# Altium integrated library Capacitor - Aluminium TH.IntLib: 4591 symbols (part 36 of 68)
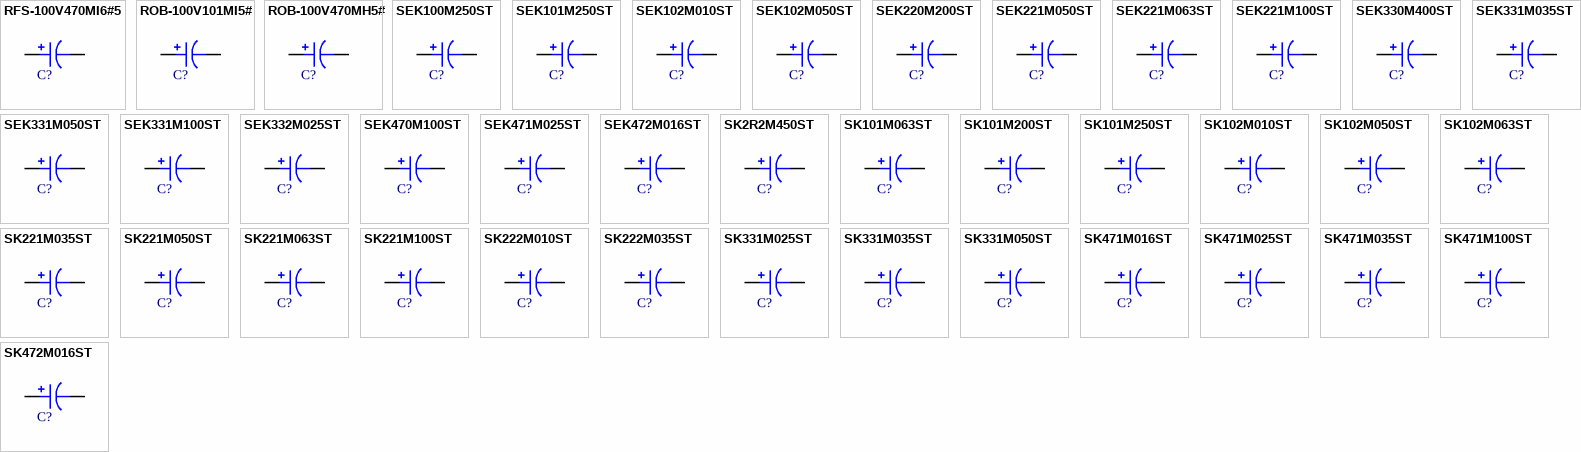
[diagram p149: symbols RFS-100V470MI6#5 to SK472M016ST]

## SK222M010ST
designator C?, comment 2200uF  (value not drawn)
CAP ALUM 2200UF 20% 10V RADIAL; Part Number: SK222M010ST; Manufacturer: Cornell Dubilier Electronics (CDE); TemperatureRange: -40C ~ 85C; Ripple Current: 1.1A; Value: 2200uF; PartId: 26199; Supplier 1: Digi-Key; Supplier Part Number 1: 338-2379-ND; ComponentLink1Description: Datasheet; ComponentLink1URL: http://www.cde.com/resources/catalogs/SK.pdf; ComponentLink2Description: Digi-Key Listing; ComponentLink2URL: https://www.digikey.com/product-detail/en/cornell-dubilier-electronics-cde/SK222M010ST/338-2379-ND/1627439; Tolerance: 20%; Voltage: 10V; Price: 1.6; Device Package: Radial, Can, 10mm
footprint CAP AL TH D10 L5 H30
pins: 1, 2

## SK222M035ST
designator C?, comment 2200uF  (value not drawn)
CAP ALUM 2200UF 20% 35V RADIAL; Part Number: SK222M035ST; Manufacturer: Cornell Dubilier Electronics (CDE); TemperatureRange: -40C ~ 85C; Ripple Current: 1.8A; Value: 2200uF; PartId: 27455; Supplier 1: Digi-Key; Supplier Part Number 1: 338-1707-ND; ComponentLink1Description: Datasheet; ComponentLink1URL: http://www.cde.com/resources/catalogs/SK.pdf; ComponentLink2Description: Digi-Key Listing; ComponentLink2URL: https://www.digikey.com/product-detail/en/cornell-dubilier-electronics-cde/SK222M035ST/338-1707-ND/1627442; Tolerance: 20%; Voltage: 35V; Price: 8.89; Device Package: Radial, Can, 16mm
footprint CAP AL TH D16 L7.5 H37
pins: 1, 2

## SK331M025ST
designator C?, comment 330uF  (value not drawn)
CAP ALUM 330UF 20% 25V RADIAL; Part Number: SK331M025ST; Manufacturer: Cornell Dubilier Electronics (CDE); TemperatureRange: -40C ~ 85C; Ripple Current: 420mA; Value: 330uF; PartId: 25390; Supplier 1: Digi-Key; Supplier Part Number 1: 338-1690-ND; ComponentLink1Description: Datasheet; ComponentLink1URL: http://www.cde.com/resources/catalogs/SK.pdf; ComponentLink2Description: Digi-Key Listing; ComponentLink2URL: https://www.digikey.com/product-detail/en/cornell-dubilier-electronics-cde/SK331M025ST/338-1690-ND/1627469; Tolerance: 20%; Voltage: 25V; Price: 0.77; Device Package: Radial, Can, 10mm
footprint CAP AL TH D10 L5 H17.5
pins: 1, 2

## SK331M035ST
designator C?, comment 330uF  (value not drawn)
CAP ALUM 330UF 20% 35V RADIAL; Part Number: SK331M035ST; Manufacturer: Cornell Dubilier Electronics (CDE); TemperatureRange: -40C ~ 85C; Ripple Current: 490mA; Value: 330uF; PartId: 25723; Supplier 1: Digi-Key; Supplier Part Number 1: 338-1665-ND; ComponentLink1Description: Datasheet; ComponentLink1URL: http://www.cde.com/resources/catalogs/SK.pdf; ComponentLink2Description: Digi-Key Listing; ComponentLink2URL: https://www.digikey.com/product-detail/en/cornell-dubilier-electronics-cde/SK331M035ST/338-1665-ND/1627470; Tolerance: 20%; Voltage: 35V; Price: 3.37; Device Package: Radial, Can, 10mm
footprint CAP AL TH D10 L5 H22
pins: 1, 2

## SK331M050ST
designator C?, comment 330uF  (value not drawn)
CAP ALUM 330UF 20% 50V RADIAL; Part Number: SK331M050ST; Manufacturer: Cornell Dubilier Electronics (CDE); TemperatureRange: -40C ~ 85C; Ripple Current: 580mA; Value: 330uF; PartId: 26205; Supplier 1: Digi-Key; Supplier Part Number 1: 338-2388-ND; ComponentLink1Description: Datasheet; ComponentLink1URL: http://www.cde.com/resources/catalogs/SK.pdf; ComponentLink2Description: Digi-Key Listing; ComponentLink2URL: https://www.digikey.com/product-detail/en/cornell-dubilier-electronics-cde/SK331M050ST/338-2388-ND/1627471; Tolerance: 20%; Voltage: 50V; Price: 4; Device Package: Radial, Can, 10mm
footprint CAP AL TH D10 L5 H30
pins: 1, 2

## SK471M016ST
designator C?, comment 470uF  (value not drawn)
CAP ALUM 470UF 20% 16V RADIAL; Part Number: SK471M016ST; Manufacturer: Cornell Dubilier Electronics (CDE); TemperatureRange: -40C ~ 85C; Type: Polar; Ripple Current: 470mA @ 120Hz; Value: 470uF; PartId: 25388; Supplier 1: Digi-Key; Supplier Part Number 1: 338-1678-ND; ComponentLink1Description: Datasheet; ComponentLink1URL: http://www.cde.com/resources/catalogs/SK.pdf; ComponentLink2Description: Digi-Key Listing; ComponentLink2URL: https://www.digikey.com/product-detail/en/cornell-dubilier-electronics-cde/SK471M016ST/338-1678-ND/1627505; Tolerance: 20%; Voltage: 16V; Price: 0.77; Device Package: Radial, Can, 10mm
footprint CAP AL TH D10 L5 H17.5
pins: 1, 2

## SK471M025ST
designator C?, comment 470uF  (value not drawn)
CAP ALUM 470UF 20% 25V RADIAL; Part Number: SK471M025ST; Manufacturer: Cornell Dubilier Electronics (CDE); TemperatureRange: -40C ~ 85C; Ripple Current: 540mA; Value: 470uF; PartId: 25722; Supplier 1: Digi-Key; Supplier Part Number 1: 338-1682-ND; ComponentLink1Description: Datasheet; ComponentLink1URL: http://www.cde.com/resources/catalogs/SK.pdf; ComponentLink2Description: Digi-Key Listing; ComponentLink2URL: https://www.digikey.com/product-detail/en/cornell-dubilier-electronics-cde/SK471M025ST/338-1682-ND/1627506; Tolerance: 20%; Voltage: 25V; Price: 3.3; Device Package: Radial, Can, 10mm
footprint CAP AL TH D10 L5 H22
pins: 1, 2

## SK471M035ST
designator C?, comment 470uF  (value not drawn)
CAP ALUM 470UF 20% 35V RADIAL; Part Number: SK471M035ST; Manufacturer: Cornell Dubilier Electronics (CDE); TemperatureRange: -40C ~ 85C; Ripple Current: 640mA; Value: 470uF; PartId: 26204; Supplier 1: Digi-Key; Supplier Part Number 1: 338-1664-ND; ComponentLink1Description: Datasheet; ComponentLink1URL: http://www.cde.com/resources/catalogs/SK.pdf; ComponentLink2Description: Digi-Key Listing; ComponentLink2URL: https://www.digikey.com/product-detail/en/cornell-dubilier-electronics-cde/SK471M035ST/338-1664-ND/1627507; Tolerance: 20%; Voltage: 35V; Price: 3.44; Device Package: Radial, Can, 10mm
footprint CAP AL TH D10 L5 H30
pins: 1, 2

## SK471M100ST
designator C?, comment 470uF  (value not drawn)
CAP ALUM 470UF 20% 100V RADIAL; Part Number: SK471M100ST; Manufacturer: Cornell Dubilier Electronics (CDE); TemperatureRange: -40C ~ 85C; Ripple Current: 1.1A; Value: 470uF; PartId: 27448; Supplier 1: Digi-Key; Supplier Part Number 1: 338-1702-ND; ComponentLink1Description: Datasheet; ComponentLink1URL: http://www.cde.com/resources/catalogs/SK.pdf; ComponentLink2Description: Digi-Key Listing; ComponentLink2URL: https://www.digikey.com/product-detail/en/cornell-dubilier-electronics-cde/SK471M100ST/338-1702-ND/1627510; Tolerance: 20%; Voltage: 100V; Price: 4.12; Device Package: Radial, Can, 16mm
footprint CAP AL TH D16 L7.5 H37
pins: 1, 2

## SK472M016ST
designator C?, comment 4700uF  (value not drawn)
CAP ALUM 4700UF 20% 16V RADIAL; Part Number: SK472M016ST; Manufacturer: Cornell Dubilier Electronics (CDE); TemperatureRange: -40C ~ 85C; Ripple Current: 2.1A; Value: 4700uF; PartId: 27437; Supplier 1: Digi-Key; Supplier Part Number 1: 338-2393-ND; ComponentLink1Description: Datasheet; ComponentLink1URL: http://www.cde.com/resources/catalogs/SK.pdf; ComponentLink2Description: Digi-Key Listing; ComponentLink2URL: https://www.digikey.com/product-detail/en/cornell-dubilier-electronics-cde/SK472M016ST/338-2393-ND/1627513; Tolerance: 20%; Voltage: 16V; Price: 3.33; Device Package: Radial, Can, 16mm
footprint CAP AL TH D16 L7.5 H37
pins: 1, 2

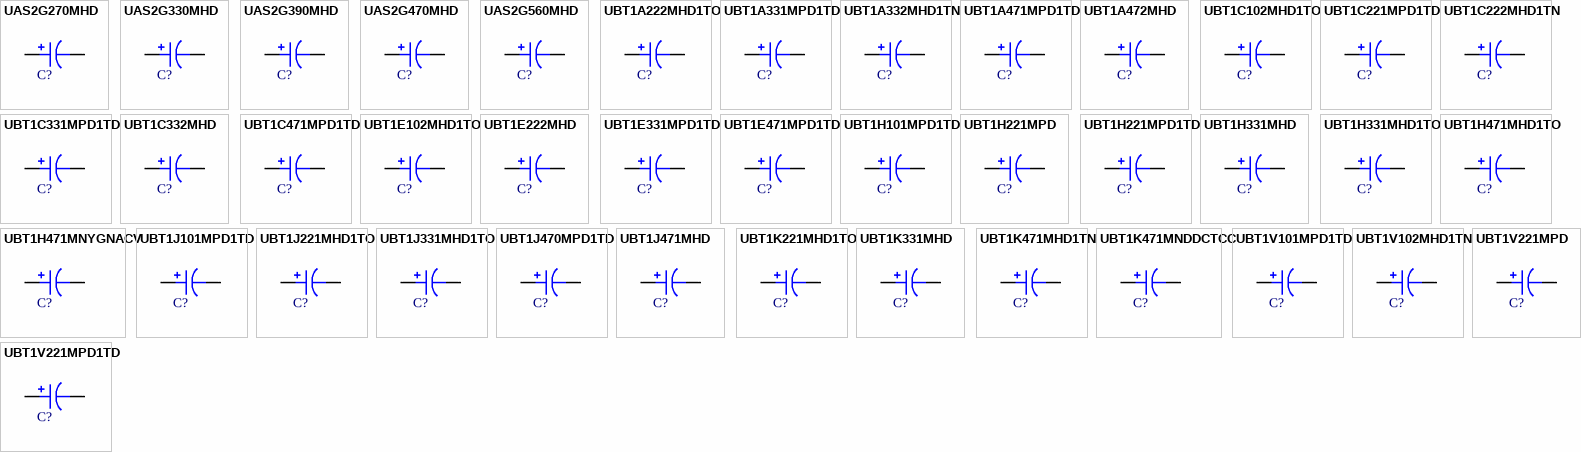
[diagram p58: symbols UAS2G270MHD to UBT1V221MPD1TD]

## UAS2G270MHD
designator C?, comment 27uF  (value not drawn)
CAP ALUM 27UF 20% 400V RADIAL; Part Number: UAS2G270MHD; Manufacturer: Nichicon; TemperatureRange: -40C ~ 105C; Type: Polar; Ripple Current: 200mA @ 120Hz; Value: 27uF; PartId: 24173; Supplier 1: Digi-Key; Supplier Part Number 1: 493-7483-ND; ComponentLink1Description: Datasheet; ComponentLink1URL: http://nichicon-us.com/english/products/pdfs/e-uas.pdf; ComponentLink2Description: Digi-Key Listing; ComponentLink2URL: https://www.digikey.com/product-detail/en/nichicon/UAS2G270MHD/493-7483-ND/3782028; Tolerance: 20%; Voltage: 400V; Price: 1.74; Device Package: Radial, Can, 12.5mm
footprint CAP AL TH D12.5 L5 H27
pins: 1, 2

## UAS2G330MHD
designator C?, comment 33uF  (value not drawn)
CAP ALUM 33UF 20% 400V RADIAL; Part Number: UAS2G330MHD; Manufacturer: Nichicon; TemperatureRange: -40C ~ 105C; Type: Polar; Ripple Current: 225mA @ 120Hz; Value: 33uF; PartId: 26482; Supplier 1: Digi-Key; Supplier Part Number 1: 493-7484-ND; ComponentLink1Description: Datasheet; ComponentLink1URL: //media.digikey.com/pdf/Data%20Sheets/Nichicon%20PDFs/UAS2G330MHD.PDF; ComponentLink2Description: Digi-Key Listing; ComponentLink2URL: https://www.digikey.com/product-detail/en/nichicon/UAS2G330MHD/493-7484-ND/3782029; Tolerance: 20%; Voltage: 400V; Price: 1.8; Device Package: Radial, Can, 16mm
footprint CAP AL TH D16 L7.5 H22
pins: 1, 2

## UAS2G390MHD
designator C?, comment 39uF  (value not drawn)
CAP ALUM 39UF 20% 400V RADIAL; Part Number: UAS2G390MHD; Manufacturer: Nichicon; TemperatureRange: -40C ~ 105C; Type: Polar; Ripple Current: 255mA @ 120Hz; Value: 39uF; PartId: 26949; Supplier 1: Digi-Key; Supplier Part Number 1: 493-7485-ND; ComponentLink1Description: Datasheet; ComponentLink1URL: http://nichicon-us.com/english/products/pdfs/e-uas.pdf; ComponentLink2Description: Digi-Key Listing; ComponentLink2URL: https://www.digikey.com/product-detail/en/nichicon/UAS2G390MHD/493-7485-ND/3782030; Tolerance: 20%; Voltage: 400V; Price: 2.03; Device Package: Radial, Can, 16mm
footprint CAP AL TH D16 L7.5 H27
pins: 1, 2

## UAS2G470MHD
designator C?, comment 47uF  (value not drawn)
CAP ALUM 47UF 20% 400V RADIAL; Part Number: UAS2G470MHD; Manufacturer: Nichicon; TemperatureRange: -40C ~ 105C; Type: Polar; Ripple Current: 290mA @ 120Hz; Value: 47uF; PartId: 26948; Supplier 1: Digi-Key; Supplier Part Number 1: 493-7487-ND; ComponentLink1Description: Datasheet; ComponentLink1URL: http://nichicon-us.com/english/products/pdfs/e-uas.pdf; ComponentLink2Description: Digi-Key Listing; ComponentLink2URL: https://www.digikey.com/product-detail/en/nichicon/UAS2G470MHD/493-7487-ND/3782032; Tolerance: 20%; Voltage: 400V; Price: 2.03; Device Package: Radial, Can, 16mm
footprint CAP AL TH D16 L7.5 H27
pins: 1, 2

## UAS2G560MHD
designator C?, comment 56uF  (value not drawn)
CAP ALUM 56UF 20% 400V RADIAL; Part Number: UAS2G560MHD; Manufacturer: Nichicon; TemperatureRange: -40C ~ 105C; Type: Polar; Ripple Current: 340mA @ 120Hz; Value: 56uF; PartId: 27227; Supplier 1: Digi-Key; Supplier Part Number 1: 493-7489-ND; ComponentLink1Description: Datasheet; ComponentLink1URL: http://nichicon-us.com/english/products/pdfs/e-uas.pdf; ComponentLink2Description: Digi-Key Listing; ComponentLink2URL: https://www.digikey.com/product-detail/en/nichicon/UAS2G560MHD/493-7489-ND/3782034; Tolerance: 20%; Voltage: 400V; Price: 2.38; Device Package: Radial, Can, 16mm
footprint CAP AL TH D16 L7.5 H33.5
pins: 1, 2

## UBT1A222MHD1TO
designator C?, comment 2200uF  (value not drawn)
CAP ALUM 2200UF 20% 10V RADIAL; Part Number: UBT1A222MHD1TO; Manufacturer: Nichicon; TemperatureRange: -40C ~ 125C; Type: Polar; Ripple Current: 1.172A @ 120Hz; Impedance: 33 mOhm; Value: 2200uF; PartId: 23849; Supplier 1: Digi-Key; Supplier Part Number 1: 493-4489-3-ND; ComponentLink1Description: Datasheet; ComponentLink1URL: http://nichicon-us.com/english/products/pdfs/e-ubt.pdf; ComponentLink2Description: Digi-Key Listing; ComponentLink2URL: https://www.digikey.com/product-detail/en/nichicon/UBT1A222MHD1TO/493-4489-3-ND/2649077; Tolerance: 20%; Voltage: 10V; Price: 0.6011; Device Package: Radial, Can, 12.5mm
footprint CAP AL TH D12.5 L5 H27
pins: 1, 2

## UBT1A331MPD1TD
designator C?, comment 330uF  (value not drawn)
CAP ALUM 330UF 20% 10V RADIAL; Part Number: UBT1A331MPD1TD; Manufacturer: Nichicon; TemperatureRange: -40C ~ 125C; Type: Polar; Ripple Current: 310mA @ 120Hz; Impedance: 150 mOhm; Value: 330uF; PartId: 24647; Supplier 1: Digi-Key; Supplier Part Number 1: 493-4486-3-ND; ComponentLink1Description: Datasheet; ComponentLink1URL: http://nichicon-us.com/english/products/pdfs/e-ubt.pdf; ComponentLink2Description: Digi-Key Listing; ComponentLink2URL: https://www.digikey.com/product-detail/en/nichicon/UBT1A331MPD1TD/493-4486-3-ND/2649074; Tolerance: 20%; Voltage: 10V; Price: 0.2479; Device Package: Radial, Can, 10mm
footprint CAP AL TH D10 L5 H14.5
pins: 1, 2

## UBT1A332MHD1TN
designator C?, comment 3300uF  (value not drawn)
CAP ALUM 3300UF 20% 10V RADIAL; Part Number: UBT1A332MHD1TN; Manufacturer: Nichicon; TemperatureRange: -40C ~ 125C; Type: Polar; Ripple Current: 1.541A @ 120Hz; Impedance: 24 mOhm; Value: 3300uF; PartId: 26822; Supplier 1: Digi-Key; Supplier Part Number 1: 493-4490-3-ND; ComponentLink1Description: Datasheet; ComponentLink1URL: http://nichicon-us.com/english/products/pdfs/e-ubt.pdf; ComponentLink2Description: Digi-Key Listing; ComponentLink2URL: https://www.digikey.com/product-detail/en/nichicon/UBT1A332MHD1TN/493-4490-3-ND/2649078; Tolerance: 20%; Voltage: 10V; Price: 0.9766; Device Package: Radial, Can, 16mm
footprint CAP AL TH D16 L7.5 H27
pins: 1, 2

## UBT1A471MPD1TD
designator C?, comment 470uF  (value not drawn)
CAP ALUM 470UF 20% 10V RADIAL; Part Number: UBT1A471MPD1TD; Manufacturer: Nichicon; TemperatureRange: -40C ~ 125C; Type: Polar; Ripple Current: 340mA @ 120Hz; Impedance: 100 mOhm; Value: 470uF; PartId: 24646; Supplier 1: Digi-Key; Supplier Part Number 1: 493-4487-3-ND; ComponentLink1Description: Datasheet; ComponentLink1URL: http://nichicon-us.com/english/products/pdfs/e-ubt.pdf; ComponentLink2Description: Digi-Key Listing; ComponentLink2URL: https://www.digikey.com/product-detail/en/nichicon/UBT1A471MPD1TD/493-4487-3-ND/2649075; Tolerance: 20%; Voltage: 10V; Price: 0.2479; Device Package: Radial, Can, 10mm
footprint CAP AL TH D10 L5 H14.5
pins: 1, 2

## UBT1A472MHD
designator C?, comment 4700uF  (value not drawn)
CAP ALUM 4700UF 20% 10V RADIAL; Part Number: UBT1A472MHD; Manufacturer: Nichicon; TemperatureRange: -40C ~ 125C; Type: Polar; Ripple Current: 1.816A @ 120Hz; Impedance: 20 mOhm; Value: 4700uF; PartId: 27190; Supplier 1: Digi-Key; Supplier Part Number 1: 493-13032-ND; ComponentLink1Description: Datasheet; ComponentLink1URL: http://nichicon-us.com/english/products/pdfs/e-ubt.pdf; ComponentLink2Description: Digi-Key Listing; ComponentLink2URL: https://www.digikey.com/product-detail/en/nichicon/UBT1A472MHD/493-13032-ND/2597389; Tolerance: 20%; Voltage: 10V; Price: 2.03; Device Package: Radial, Can, 16mm
footprint CAP AL TH D16 L7.5 H33.5
pins: 1, 2

## UBT1C102MHD1TO
designator C?, comment 1000uF  (value not drawn)
CAP ALUM 1000UF 20% 16V RADIAL; Part Number: UBT1C102MHD1TO; Manufacturer: Nichicon; TemperatureRange: -40C ~ 125C; Type: Polar; Ripple Current: 998.3mA @ 120Hz; Impedance: 42 mOhm; Value: 1000uF; PartId: 23197; Supplier 1: Digi-Key; Supplier Part Number 1: 493-4494-3-ND; ComponentLink1Description: Datasheet; ComponentLink1URL: http://nichicon-us.com/english/products/pdfs/e-ubt.pdf; ComponentLink2Description: Digi-Key Listing; ComponentLink2URL: https://www.digikey.com/product-detail/en/nichicon/UBT1C102MHD1TO/493-4494-3-ND/2649082; Tolerance: 20%; Voltage: 16V; Price: 0.4482; Device Package: Radial, Can, 12.5mm
footprint CAP AL TH D12.5 L5 H22
pins: 1, 2

## UBT1C221MPD1TD
designator C?, comment 220uF  (value not drawn)
CAP ALUM 220UF 20% 16V RADIAL; Part Number: UBT1C221MPD1TD; Manufacturer: Nichicon; TemperatureRange: -40C ~ 125C; Type: Polar; Ripple Current: 310mA @ 120Hz; Impedance: 150 mOhm; Value: 220uF; PartId: 24648; Supplier 1: Digi-Key; Supplier Part Number 1: 493-13098-3-ND; ComponentLink1Description: Datasheet; ComponentLink1URL: http://nichicon-us.com/english/products/pdfs/e-ubt.pdf; ComponentLink2Description: Digi-Key Listing; ComponentLink2URL: https://www.digikey.com/product-detail/en/nichicon/UBT1C221MPD1TD/493-13098-3-ND/4332729; Tolerance: 20%; Voltage: 16V; Price: 0.2479; Device Package: Radial, Can, 10mm
footprint CAP AL TH D10 L5 H14.5
pins: 1, 2

## UBT1C222MHD1TN
designator C?, comment 2200uF  (value not drawn)
CAP ALUM 2200UF 20% 16V RADIAL; Part Number: UBT1C222MHD1TN; Manufacturer: Nichicon; TemperatureRange: -40C ~ 125C; Type: Polar; Ripple Current: 1.541A @ 120Hz; Impedance: 24 mOhm; Value: 2200uF; PartId: 26816; Supplier 1: Digi-Key; Supplier Part Number 1: 493-4495-3-ND; ComponentLink1Description: Datasheet; ComponentLink1URL: http://nichicon-us.com/english/products/pdfs/e-ubt.pdf; ComponentLink2Description: Digi-Key Listing; ComponentLink2URL: https://www.digikey.com/product-detail/en/nichicon/UBT1C222MHD1TN/493-4495-3-ND/2649083; Tolerance: 20%; Voltage: 16V; Price: 0.9606; Device Package: Radial, Can, 16mm
footprint CAP AL TH D16 L7.5 H27
pins: 1, 2

## UBT1C331MPD1TD
designator C?, comment 330uF  (value not drawn)
CAP ALUM 330UF 20% 16V RADIAL; Part Number: UBT1C331MPD1TD; Manufacturer: Nichicon; TemperatureRange: -40C ~ 125C; Type: Polar; Ripple Current: 340mA @ 120Hz; Impedance: 100 mOhm; Value: 330uF; PartId: 24645; Supplier 1: Digi-Key; Supplier Part Number 1: 493-4492-3-ND; ComponentLink1Description: Datasheet; ComponentLink1URL: http://nichicon-us.com/english/products/pdfs/e-ubt.pdf; ComponentLink2Description: Digi-Key Listing; ComponentLink2URL: https://www.digikey.com/product-detail/en/nichicon/UBT1C331MPD1TD/493-4492-3-ND/2649080; Tolerance: 20%; Voltage: 16V; Price: 0.2479; Device Package: Radial, Can, 10mm
footprint CAP AL TH D10 L5 H14.5
pins: 1, 2

## UBT1C332MHD
designator C?, comment 3300uF  (value not drawn)
CAP ALUM 3300UF 20% 16V RADIAL; Part Number: UBT1C332MHD; Manufacturer: Nichicon; TemperatureRange: -40C ~ 125C; Type: Polar; Ripple Current: 1.816A @ 120Hz; Impedance: 20 mOhm; Value: 3300uF; PartId: 27199; Supplier 1: Digi-Key; Supplier Part Number 1: 493-4478-ND; ComponentLink1Description: Datasheet; ComponentLink1URL: http://nichicon-us.com/english/products/pdfs/e-ubt.pdf; ComponentLink2Description: Digi-Key Listing; ComponentLink2URL: https://www.digikey.com/product-detail/en/nichicon/UBT1C332MHD/493-4478-ND/2597395; Tolerance: 20%; Voltage: 16V; Price: 2.07; Device Package: Radial, Can, 16mm
footprint CAP AL TH D16 L7.5 H33.5
pins: 1, 2

## UBT1C471MPD1TD
designator C?, comment 470uF  (value not drawn)
CAP ALUM 470UF 20% 16V RADIAL; Part Number: UBT1C471MPD1TD; Manufacturer: Nichicon; TemperatureRange: -40C ~ 125C; Type: Polar; Ripple Current: 472.5mA @ 120Hz; Impedance: 75 mOhm; Value: 470uF; PartId: 25469; Supplier 1: Digi-Key; Supplier Part Number 1: 493-4493-3-ND; ComponentLink1Description: Datasheet; ComponentLink1URL: http://nichicon-us.com/english/products/pdfs/e-ubt.pdf; ComponentLink2Description: Digi-Key Listing; ComponentLink2URL: https://www.digikey.com/product-detail/en/nichicon/UBT1C471MPD1TD/493-4493-3-ND/2649081; Tolerance: 20%; Voltage: 16V; Price: 0.2861; Device Package: Radial, Can, 10mm
footprint CAP AL TH D10 L5 H22
pins: 1, 2

## UBT1E102MHD1TO
designator C?, comment 1000uF  (value not drawn)
CAP ALUM 1000UF 20% 25V RADIAL; Part Number: UBT1E102MHD1TO; Manufacturer: Nichicon; TemperatureRange: -40C ~ 125C; Type: Polar; Ripple Current: 1.172A @ 120Hz; Impedance: 33 mOhm; Value: 1000uF; PartId: 23847; Supplier 1: Digi-Key; Supplier Part Number 1: 493-4500-3-ND; ComponentLink1Description: Datasheet; ComponentLink1URL: http://nichicon-us.com/english/products/pdfs/e-ubt.pdf; ComponentLink2Description: Digi-Key Listing; ComponentLink2URL: https://www.digikey.com/product-detail/en/nichicon/UBT1E102MHD1TO/493-4500-3-ND/2649088; Tolerance: 20%; Voltage: 25V; Price: 0.5684; Device Package: Radial, Can, 12.5mm
footprint CAP AL TH D12.5 L5 H27
pins: 1, 2

## UBT1E222MHD
designator C?, comment 2200uF  (value not drawn)
CAP ALUM 2200UF 20% 25V RADIAL; Part Number: UBT1E222MHD; Manufacturer: Nichicon; TemperatureRange: -40C ~ 125C; Type: Polar; Ripple Current: 1.816A @ 120Hz; Impedance: 20 mOhm; Value: 2200uF; PartId: 27192; Supplier 1: Digi-Key; Supplier Part Number 1: 493-4484-ND; ComponentLink1Description: Datasheet; ComponentLink1URL: http://nichicon-us.com/english/products/pdfs/e-ubt.pdf; ComponentLink2Description: Digi-Key Listing; ComponentLink2URL: https://www.digikey.com/product-detail/en/nichicon/UBT1E222MHD/493-4484-ND/2597401; Tolerance: 20%; Voltage: 25V; Price: 2.05; Device Package: Radial, Can, 16mm
footprint CAP AL TH D16 L7.5 H33.5
pins: 1, 2

## UBT1E331MPD1TD
designator C?, comment 330uF  (value not drawn)
CAP ALUM 330UF 20% 25V RADIAL; Part Number: UBT1E331MPD1TD; Manufacturer: Nichicon; TemperatureRange: -40C ~ 125C; Type: Polar; Ripple Current: 472.5mA @ 120Hz; Impedance: 75 mOhm; Value: 330uF; PartId: 25467; Supplier 1: Digi-Key; Supplier Part Number 1: 493-4498-3-ND; ComponentLink1Description: Datasheet; ComponentLink1URL: http://nichicon-us.com/english/products/pdfs/e-ubt.pdf; ComponentLink2Description: Digi-Key Listing; ComponentLink2URL: https://www.digikey.com/product-detail/en/nichicon/UBT1E331MPD1TD/493-4498-3-ND/2649086; Tolerance: 20%; Voltage: 25V; Price: 0.2698; Device Package: Radial, Can, 10mm
footprint CAP AL TH D10 L5 H22
pins: 1, 2

## UBT1E471MPD1TD
designator C?, comment 470uF  (value not drawn)
CAP ALUM 470UF 20% 25V RADIAL; Part Number: UBT1E471MPD1TD; Manufacturer: Nichicon; TemperatureRange: -40C ~ 125C; Type: Polar; Ripple Current: 550mA @ 120Hz; Impedance: 57 mOhm; Value: 470uF; PartId: 25813; Supplier 1: Digi-Key; Supplier Part Number 1: 493-4499-3-ND; ComponentLink1Description: Datasheet; ComponentLink1URL: http://nichicon-us.com/english/products/pdfs/e-ubt.pdf; ComponentLink2Description: Digi-Key Listing; ComponentLink2URL: https://www.digikey.com/product-detail/en/nichicon/UBT1E471MPD1TD/493-4499-3-ND/2649087; Tolerance: 20%; Voltage: 25V; Price: 0.3319; Device Package: Radial, Can, 10mm
footprint CAP AL TH D10 L5 H22
pins: 1, 2

## UBT1H101MPD1TD
designator C?, comment 100uF  (value not drawn)
CAP ALUM 100UF 20% 50V RADIAL; Part Number: UBT1H101MPD1TD; Manufacturer: Nichicon; TemperatureRange: -40C ~ 125C; Type: Polar; Ripple Current: 277.5mA @ 120Hz; Impedance: 180 mOhm; Value: 100uF; PartId: 24652; Supplier 1: Digi-Key; Supplier Part Number 1: 493-4508-3-ND; ComponentLink1Description: Datasheet; ComponentLink1URL: http://nichicon-us.com/english/products/pdfs/e-ubt.pdf; ComponentLink2Description: Digi-Key Listing; ComponentLink2URL: https://www.digikey.com/product-detail/en/nichicon/UBT1H101MPD1TD/493-4508-3-ND/2649096; Tolerance: 20%; Voltage: 50V; Price: 0.2558; Device Package: Radial, Can, 10mm
footprint CAP AL TH D10 L5 H14.5
pins: 1, 2

## UBT1H221MPD
designator C?, comment 220uF  (value not drawn)
CAP ALUM 220UF 20% 50V RADIAL; Part Number: UBT1H221MPD; Manufacturer: Nichicon; TemperatureRange: -40C ~ 125C; Type: Polar; Ripple Current: 465mA @ 120Hz; Impedance: 98 mOhm; Value: 220uF; PartId: 25962; Supplier 1: Digi-Key; Supplier Part Number 1: 493-13385-ND; ComponentLink1Description: Datasheet; ComponentLink1URL: http://nichicon-us.com/english/products/pdfs/e-ubt.pdf; ComponentLink2Description: Digi-Key Listing; ComponentLink2URL: https://www.digikey.com/product-detail/en/nichicon/UBT1H221MPD/493-13385-ND/2597410; Tolerance: 20%; Voltage: 50V; Price: 0.83; Device Package: Radial, Can, 10mm
footprint CAP AL TH D10 L5 H22
pins: 1, 2

## UBT1H221MPD1TD
designator C?, comment 220uF  (value not drawn)
CAP ALUM 220UF 20% 50V RADIAL; Part Number: UBT1H221MPD1TD; Manufacturer: Nichicon; TemperatureRange: -40C ~ 125C; Type: Polar; Ripple Current: 465mA @ 120Hz; Impedance: 98 mOhm; Value: 220uF; PartId: 25828; Supplier 1: Digi-Key; Supplier Part Number 1: 493-13101-3-ND; ComponentLink1Description: Datasheet; ComponentLink1URL: http://nichicon-us.com/english/products/pdfs/e-ubt.pdf; ComponentLink2Description: Digi-Key Listing; ComponentLink2URL: https://www.digikey.com/product-detail/en/nichicon/UBT1H221MPD1TD/493-13101-3-ND/4332732; Tolerance: 20%; Voltage: 50V; Price: 0.3475; Device Package: Radial, Can, 10mm
footprint CAP AL TH D10 L5 H22
pins: 1, 2

## UBT1H331MHD
designator C?, comment 330uF  (value not drawn)
CAP ALUM 330UF 20% 50V RADIAL; Part Number: UBT1H331MHD; Manufacturer: Nichicon; TemperatureRange: -40C ~ 125C; Type: Polar; Ripple Current: 665mA @ 120Hz; Impedance: 70 mOhm; Value: 330uF; PartId: 23403; Supplier 1: Digi-Key; Supplier Part Number 1: 493-14457-ND; ComponentLink1Description: Datasheet; ComponentLink1URL: http://nichicon-us.com/english/products/pdfs/e-ubt.pdf; ComponentLink2Description: Digi-Key Listing; ComponentLink2URL: https://www.digikey.com/product-detail/en/nichicon/UBT1H331MHD/493-14457-ND/2597412; Tolerance: 20%; Voltage: 50V; Price: 0.98; Device Package: Radial, Can, 12.5mm
footprint CAP AL TH D12.5 L5 H22
pins: 1, 2

## UBT1H331MHD1TO
designator C?, comment 330uF  (value not drawn)
CAP ALUM 330UF 20% 50V RADIAL; Part Number: UBT1H331MHD1TO; Manufacturer: Nichicon; TemperatureRange: -40C ~ 125C; Type: Polar; Ripple Current: 665mA @ 120Hz; Impedance: 70 mOhm; Value: 330uF; PartId: 23188; Supplier 1: Digi-Key; Supplier Part Number 1: 493-4509-3-ND; ComponentLink1Description: Datasheet; ComponentLink1URL: http://nichicon-us.com/english/products/pdfs/e-ubt.pdf; ComponentLink2Description: Digi-Key Listing; ComponentLink2URL: https://www.digikey.com/product-detail/en/nichicon/UBT1H331MHD1TO/493-4509-3-ND/2649097; Tolerance: 20%; Voltage: 50V; Price: 0.4367; Device Package: Radial, Can, 12.5mm
footprint CAP AL TH D12.5 L5 H22
pins: 1, 2

## UBT1H471MHD1TO
designator C?, comment 470uF  (value not drawn)
CAP ALUM 470UF 20% 50V RADIAL; Part Number: UBT1H471MHD1TO; Manufacturer: Nichicon; TemperatureRange: -40C ~ 125C; Type: Polar; Ripple Current: 825mA @ 120Hz; Impedance: 55 mOhm; Value: 470uF; PartId: 23858; Supplier 1: Digi-Key; Supplier Part Number 1: 493-4510-3-ND; ComponentLink1Description: Datasheet; ComponentLink1URL: http://nichicon-us.com/english/products/pdfs/e-ubt.pdf; ComponentLink2Description: Digi-Key Listing; ComponentLink2URL: https://www.digikey.com/product-detail/en/nichicon/UBT1H471MHD1TO/493-4510-3-ND/2649098; Tolerance: 20%; Voltage: 50V; Price: 0.6509; Device Package: Radial, Can, 12.5mm
footprint CAP AL TH D12.5 L5 H27
pins: 1, 2

## UBT1H471MNYGNACV
designator C?, comment 470uF  (value not drawn)
CAP ALUM 470UF 20% 50V RADIAL; Part Number: UBT1H471MNYGNACV; Manufacturer: Nichicon; TemperatureRange: -40C ~ 125C; Type: Polar; Ripple Current: 825mA @ 120Hz; Impedance: 55 mOhm; Value: 470uF; PartId: 24120; Supplier 1: Digi-Key; Supplier Part Number 1: UBT1H471MNYGNACV-ND; ComponentLink1Description: Datasheet; ComponentLink1URL: http://nichicon-us.com/english/products/pdfs/e-ubt.pdf; ComponentLink2Description: Digi-Key Listing; ComponentLink2URL: https://www.digikey.com/product-detail/en/nichicon/UBT1H471MNYGNACV/UBT1H471MNYGNACV-ND/5080522; Tolerance: 20%; Voltage: 50V; Price: 1.41; Device Package: Radial, Can, 12.5mm
footprint CAP AL TH D12.5 L5 H27
pins: 1, 2

## UBT1J101MPD1TD
designator C?, comment 100uF  (value not drawn)
CAP ALUM 100UF 20% 63V RADIAL; Part Number: UBT1J101MPD1TD; Manufacturer: Nichicon; TemperatureRange: -40C ~ 125C; Type: Polar; Ripple Current: 345mA @ 120Hz; Impedance: 410 mOhm; Value: 100uF; PartId: 25475; Supplier 1: Digi-Key; Supplier Part Number 1: 493-13105-3-ND; ComponentLink1Description: Datasheet; ComponentLink1URL: http://nichicon-us.com/english/products/pdfs/e-ubt.pdf; ComponentLink2Description: Digi-Key Listing; ComponentLink2URL: https://www.digikey.com/product-detail/en/nichicon/UBT1J101MPD1TD/493-13105-3-ND/4332736; Tolerance: 20%; Voltage: 63V; Price: 0.3061; Device Package: Radial, Can, 10mm
footprint CAP AL TH D10 L5 H22
pins: 1, 2

## UBT1J221MHD1TO
designator C?, comment 220uF  (value not drawn)
CAP ALUM 220UF 20% 63V RADIAL; Part Number: UBT1J221MHD1TO; Manufacturer: Nichicon; TemperatureRange: -40C ~ 125C; Type: Polar; Ripple Current: 525mA @ 120Hz; Impedance: 160 mOhm; Value: 220uF; PartId: 23195; Supplier 1: Digi-Key; Supplier Part Number 1: 493-4513-3-ND; ComponentLink1Description: Datasheet; ComponentLink1URL: http://nichicon-us.com/english/products/pdfs/e-ubt.pdf; ComponentLink2Description: Digi-Key Listing; ComponentLink2URL: https://www.digikey.com/product-detail/en/nichicon/UBT1J221MHD1TO/493-4513-3-ND/2649101; Tolerance: 20%; Voltage: 63V; Price: 0.4386; Device Package: Radial, Can, 12.5mm
footprint CAP AL TH D12.5 L5 H22
pins: 1, 2

## UBT1J331MHD1TO
designator C?, comment 330uF  (value not drawn)
CAP ALUM 330UF 20% 63V RADIAL; Part Number: UBT1J331MHD1TO; Manufacturer: Nichicon; TemperatureRange: -40C ~ 125C; Type: Polar; Ripple Current: 645mA @ 120Hz; Impedance: 120 mOhm; Value: 330uF; PartId: 24155; Supplier 1: Digi-Key; Supplier Part Number 1: 493-13107-1-ND; ComponentLink1Description: Datasheet; ComponentLink1URL: http://nichicon-us.com/english/products/pdfs/e-ubt.pdf; ComponentLink2Description: Digi-Key Listing; ComponentLink2URL: https://www.digikey.com/product-detail/en/nichicon/UBT1J331MHD1TO/493-13107-1-ND/4333117; Tolerance: 20%; Voltage: 63V; Price: 1.56; Device Package: Radial, Can, 12.5mm
footprint CAP AL TH D12.5 L5 H27
pins: 1, 2

## UBT1J470MPD1TD
designator C?, comment 47uF  (value not drawn)
CAP ALUM 47UF 20% 63V RADIAL; Part Number: UBT1J470MPD1TD; Manufacturer: Nichicon; TemperatureRange: -40C ~ 125C; Type: Polar; Ripple Current: 265mA @ 120Hz; Impedance: 590 mOhm; Value: 47uF; PartId: 24659; Supplier 1: Digi-Key; Supplier Part Number 1: 493-4512-3-ND; ComponentLink1Description: Datasheet; ComponentLink1URL: http://nichicon-us.com/english/products/pdfs/e-ubt.pdf; ComponentLink2Description: Digi-Key Listing; ComponentLink2URL: https://www.digikey.com/product-detail/en/nichicon/UBT1J470MPD1TD/493-4512-3-ND/2649100; Tolerance: 20%; Voltage: 63V; Price: 0.2591; Device Package: Radial, Can, 10mm
footprint CAP AL TH D10 L5 H14.5
pins: 1, 2

## UBT1J471MHD
designator C?, comment 470uF  (value not drawn)
CAP ALUM 470UF 20% 63V RADIAL; Part Number: UBT1J471MHD; Manufacturer: Nichicon; TemperatureRange: -40C ~ 125C; Type: Polar; Ripple Current: 730mA @ 120Hz; Impedance: 97 mOhm; Value: 470uF; PartId: 24384; Supplier 1: Digi-Key; Supplier Part Number 1: 493-4481-ND; ComponentLink1Description: Datasheet; ComponentLink1URL: http://nichicon-us.com/english/products/pdfs/e-ubt.pdf; ComponentLink2Description: Digi-Key Listing; ComponentLink2URL: https://www.digikey.com/product-detail/en/nichicon/UBT1J471MHD/493-4481-ND/2597422; Tolerance: 20%; Voltage: 63V; Price: 1.71; Device Package: Radial, Can, 12.5mm
footprint CAP AL TH D12.5 L5 H35.5
pins: 1, 2

## UBT1K221MHD1TO
designator C?, comment 220uF  (value not drawn)
CAP ALUM 220UF 20% 80V RADIAL; Part Number: UBT1K221MHD1TO; Manufacturer: Nichicon; TemperatureRange: -40C ~ 125C; Type: Polar; Ripple Current: 620mA @ 120Hz; Impedance: 180 mOhm; Value: 220uF; PartId: 23860; Supplier 1: Digi-Key; Supplier Part Number 1: 493-4514-3-ND; ComponentLink1Description: Datasheet; ComponentLink1URL: http://nichicon-us.com/english/products/pdfs/e-ubt.pdf; ComponentLink2Description: Digi-Key Listing; ComponentLink2URL: https://www.digikey.com/product-detail/en/nichicon/UBT1K221MHD1TO/493-4514-3-ND/2649102; Tolerance: 20%; Voltage: 80V; Price: 0.6645; Device Package: Radial, Can, 12.5mm
footprint CAP AL TH D12.5 L5 H27
pins: 1, 2

## UBT1K331MHD
designator C?, comment 330uF  (value not drawn)
CAP ALUM 330UF 20% 80V RADIAL; Part Number: UBT1K331MHD; Manufacturer: Nichicon; TemperatureRange: -40C ~ 125C; Type: Polar; Ripple Current: 695mA @ 120Hz; Impedance: 160 mOhm; Value: 330uF; PartId: 24391; Supplier 1: Digi-Key; Supplier Part Number 1: 493-13034-ND; ComponentLink1Description: Datasheet; ComponentLink1URL: http://nichicon-us.com/english/products/pdfs/e-ubt.pdf; ComponentLink2Description: Digi-Key Listing; ComponentLink2URL: https://www.digikey.com/product-detail/en/nichicon/UBT1K331MHD/493-13034-ND/2597427; Tolerance: 20%; Voltage: 80V; Price: 1.81; Device Package: Radial, Can, 12.5mm
footprint CAP AL TH D12.5 L5 H35.5
pins: 1, 2

## UBT1K471MHD1TN
designator C?, comment 470uF  (value not drawn)
CAP ALUM 470UF 20% 80V RADIAL; Part Number: UBT1K471MHD1TN; Manufacturer: Nichicon; TemperatureRange: -40C ~ 125C; Type: Polar; Ripple Current: 750mA @ 120Hz; Impedance: 110 mOhm; Value: 470uF; PartId: 26880; Supplier 1: Digi-Key; Supplier Part Number 1: 493-4515-3-ND; ComponentLink1Description: Datasheet; ComponentLink1URL: http://nichicon-us.com/english/products/pdfs/e-ubt.pdf; ComponentLink2Description: Digi-Key Listing; ComponentLink2URL: https://www.digikey.com/product-detail/en/nichicon/UBT1K471MHD1TN/493-4515-3-ND/2649103; Tolerance: 20%; Voltage: 80V; Price: 1.3037; Device Package: Radial, Can, 16mm
footprint CAP AL TH D16 L7.5 H27
pins: 1, 2

## UBT1K471MNDDCTCC
designator C?, comment 470uF  (value not drawn)
CAP ALUM 470UF 20% 80V RADIAL; Part Number: UBT1K471MNDDCTCC; Manufacturer: Nichicon; TemperatureRange: -40C ~ 125C; Type: Polar; Ripple Current: 750mA @ 120Hz; Impedance: 110 mOhm; Value: 470uF; PartId: 26682; Supplier 1: Digi-Key; Supplier Part Number 1: 493-14668-ND; ComponentLink1Description: Datasheet; ComponentLink1URL: //media.digikey.com/pdf/Data%20Sheets/Nichicon%20PDFs/UBT1K471MNDDCTCC_Spec_Sheet.pdf; ComponentLink2Description: Digi-Key Listing; ComponentLink2URL: https://www.digikey.com/product-detail/en/nichicon/UBT1K471MNDDCTCC/493-14668-ND/5994796; Tolerance: 20%; Voltage: 80V; Price: 1.8; Device Package: Radial, Can, 16mm
footprint CAP AL TH D16 L7.5 H26.5
pins: 1, 2

## UBT1V101MPD1TD
designator C?, comment 100uF  (value not drawn)
CAP ALUM 100UF 20% 35V RADIAL; Part Number: UBT1V101MPD1TD; Manufacturer: Nichicon; TemperatureRange: -40C ~ 125C; Type: Polar; Ripple Current: 310mA @ 120Hz; Impedance: 150 mOhm; Value: 100uF; PartId: 24650; Supplier 1: Digi-Key; Supplier Part Number 1: 493-4501-3-ND; ComponentLink1Description: Datasheet; ComponentLink1URL: http://nichicon-us.com/english/products/pdfs/e-ubt.pdf; ComponentLink2Description: Digi-Key Listing; ComponentLink2URL: https://www.digikey.com/product-detail/en/nichicon/UBT1V101MPD1TD/493-4501-3-ND/2649089; Tolerance: 20%; Voltage: 35V; Price: 0.253; Device Package: Radial, Can, 10mm
footprint CAP AL TH D10 L5 H14.5
pins: 1, 2

## UBT1V102MHD1TN
designator C?, comment 1000uF  (value not drawn)
CAP ALUM 1000UF 20% 35V RADIAL; Part Number: UBT1V102MHD1TN; Manufacturer: Nichicon; TemperatureRange: -40C ~ 125C; Type: Polar; Ripple Current: 1.347A @ 120Hz; Impedance: 31 mOhm; Value: 1000uF; PartId: 26840; Supplier 1: Digi-Key; Supplier Part Number 1: 493-4504-3-ND; ComponentLink1Description: Datasheet; ComponentLink1URL: http://nichicon-us.com/english/products/pdfs/e-ubt.pdf; ComponentLink2Description: Digi-Key Listing; ComponentLink2URL: https://www.digikey.com/product-detail/en/nichicon/UBT1V102MHD1TN/493-4504-3-ND/2649092; Tolerance: 20%; Voltage: 35V; Price: 0.9972; Device Package: Radial, Can, 16mm
footprint CAP AL TH D16 L7.5 H27
pins: 1, 2

## UBT1V221MPD
designator C?, comment 220uF  (value not drawn)
CAP ALUM 220UF 20% 35V RADIAL; Part Number: UBT1V221MPD; Manufacturer: Nichicon; TemperatureRange: -40C ~ 125C; Type: Polar; Ripple Current: 395mA @ 120Hz; Impedance: 94 mOhm; Value: 220uF; PartId: 25633; Supplier 1: Digi-Key; Supplier Part Number 1: 493-13386-ND; ComponentLink1Description: Datasheet; ComponentLink1URL: http://nichicon-us.com/english/products/pdfs/e-ubt.pdf; ComponentLink2Description: Digi-Key Listing; ComponentLink2URL: https://www.digikey.com/product-detail/en/nichicon/UBT1V221MPD/493-13386-ND/2597432; Tolerance: 20%; Voltage: 35V; Price: 0.72; Device Package: Radial, Can, 10mm
footprint CAP AL TH D10 L5 H22
pins: 1, 2

## UBT1V221MPD1TD
designator C?, comment 220uF  (value not drawn)
CAP ALUM 220UF 20% 35V RADIAL; Part Number: UBT1V221MPD1TD; Manufacturer: Nichicon; TemperatureRange: -40C ~ 125C; Type: Polar; Ripple Current: 395mA @ 120Hz; Impedance: 94 mOhm; Value: 220uF; PartId: 25468; Supplier 1: Digi-Key; Supplier Part Number 1: 493-4502-3-ND; ComponentLink1Description: Datasheet; ComponentLink1URL: http://nichicon-us.com/english/products/pdfs/e-ubt.pdf; ComponentLink2Description: Digi-Key Listing; ComponentLink2URL: https://www.digikey.com/product-detail/en/nichicon/UBT1V221MPD1TD/493-4502-3-ND/2649090; Tolerance: 20%; Voltage: 35V; Price: 0.2736; Device Package: Radial, Can, 10mm
footprint CAP AL TH D10 L5 H22
pins: 1, 2

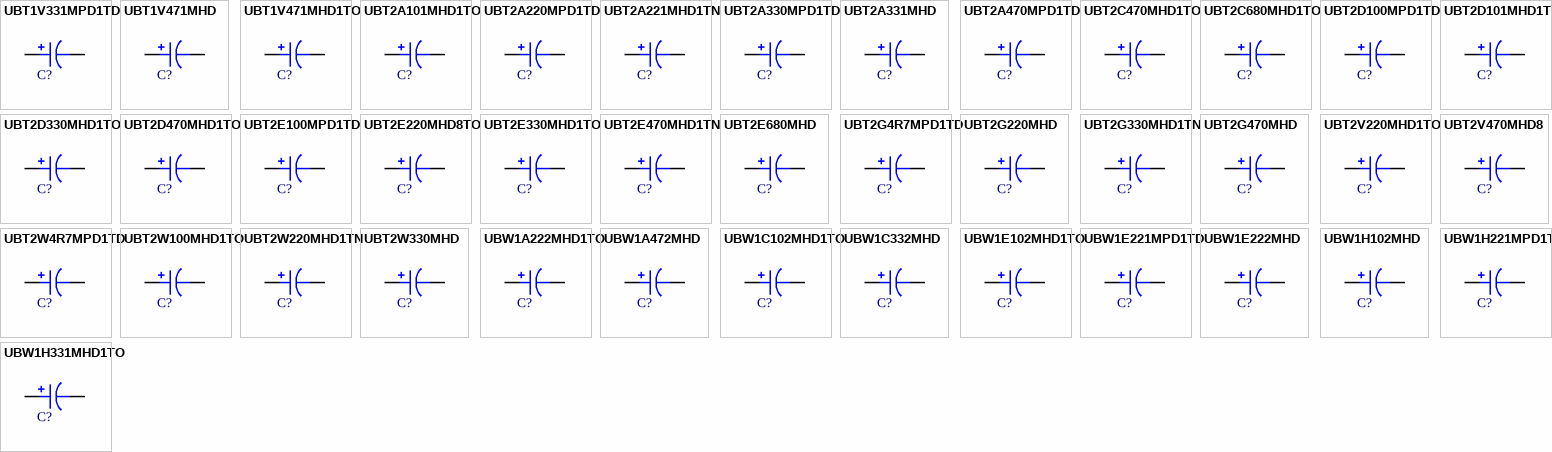
[diagram p59: symbols UBT1V331MPD1TD to UBW1H331MHD1TO]

## UBT1V331MPD1TD
designator C?, comment 330uF  (value not drawn)
CAP ALUM 330UF 20% 35V RADIAL; Part Number: UBT1V331MPD1TD; Manufacturer: Nichicon; TemperatureRange: -40C ~ 125C; Type: Polar; Ripple Current: 475mA @ 120Hz; Impedance: 75 mOhm; Value: 330uF; PartId: 25823; Supplier 1: Digi-Key; Supplier Part Number 1: 493-13112-3-ND; ComponentLink1Description: Datasheet; ComponentLink1URL: http://nichicon-us.com/english/products/pdfs/e-ubt.pdf; ComponentLink2Description: Digi-Key Listing; ComponentLink2URL: https://www.digikey.com/product-detail/en/nichicon/UBT1V331MPD1TD/493-13112-3-ND/4332743; Tolerance: 20%; Voltage: 35V; Price: 0.341; Device Package: Radial, Can, 10mm
footprint CAP AL TH D10 L5 H22
pins: 1, 2

## UBT1V471MHD
designator C?, comment 470uF  (value not drawn)
CAP ALUM 470UF 20% 35V RADIAL; Part Number: UBT1V471MHD; Manufacturer: Nichicon; TemperatureRange: -40C ~ 125C; Type: Polar; Ripple Current: 665mA @ 120Hz; Impedance: 58 mOhm; Value: 470uF; PartId: 23463; Supplier 1: Digi-Key; Supplier Part Number 1: 493-14458-ND; ComponentLink1Description: Datasheet; ComponentLink1URL: http://nichicon-us.com/english/products/pdfs/e-ubt.pdf; ComponentLink2Description: Digi-Key Listing; ComponentLink2URL: https://www.digikey.com/product-detail/en/nichicon/UBT1V471MHD/493-14458-ND/2597435; Tolerance: 20%; Voltage: 35V; Price: 1.06; Device Package: Radial, Can, 12.5mm
footprint CAP AL TH D12.5 L5 H22
pins: 1, 2

## UBT1V471MHD1TO
designator C?, comment 470uF  (value not drawn)
CAP ALUM 470UF 20% 35V RADIAL; Part Number: UBT1V471MHD1TO; Manufacturer: Nichicon; TemperatureRange: -40C ~ 125C; Type: Polar; Ripple Current: 665mA @ 120Hz; Impedance: 58 mOhm; Value: 470uF; PartId: 23204; Supplier 1: Digi-Key; Supplier Part Number 1: 493-4503-3-ND; ComponentLink1Description: Datasheet; ComponentLink1URL: http://nichicon-us.com/english/products/pdfs/e-ubt.pdf; ComponentLink2Description: Digi-Key Listing; ComponentLink2URL: https://www.digikey.com/product-detail/en/nichicon/UBT1V471MHD1TO/493-4503-3-ND/2649091; Tolerance: 20%; Voltage: 35V; Price: 0.4724; Device Package: Radial, Can, 12.5mm
footprint CAP AL TH D12.5 L5 H22
pins: 1, 2

## UBT2A101MHD1TO
designator C?, comment 100uF  (value not drawn)
CAP ALUM 100UF 20% 100V RADIAL; Part Number: UBT2A101MHD1TO; Manufacturer: Nichicon; TemperatureRange: -40C ~ 125C; Type: Polar; Ripple Current: 495mA @ 120Hz; Impedance: 250 mOhm; Value: 100uF; PartId: 23189; Supplier 1: Digi-Key; Supplier Part Number 1: 493-13114-3-ND; ComponentLink1Description: Datasheet; ComponentLink1URL: http://nichicon-us.com/english/products/pdfs/e-ubt.pdf; ComponentLink2Description: Digi-Key Listing; ComponentLink2URL: https://www.digikey.com/product-detail/en/nichicon/UBT2A101MHD1TO/493-13114-3-ND/4332745; Tolerance: 20%; Voltage: 100V; Price: 0.4367; Device Package: Radial, Can, 12.5mm
footprint CAP AL TH D12.5 L5 H22
pins: 1, 2

## UBT2A220MPD1TD
designator C?, comment 22uF  (value not drawn)
CAP ALUM 22UF 20% 100V RADIAL; Part Number: UBT2A220MPD1TD; Manufacturer: Nichicon; TemperatureRange: -40C ~ 125C; Type: Polar; Ripple Current: 240mA  @ 120Hz; Impedance: 800 mOhm; Value: 22uF; PartId: 24644; Supplier 1: Digi-Key; Supplier Part Number 1: 493-4516-3-ND; ComponentLink1Description: Datasheet; ComponentLink1URL: http://nichicon-us.com/english/products/pdfs/e-ubt.pdf; ComponentLink2Description: Digi-Key Listing; ComponentLink2URL: https://www.digikey.com/product-detail/en/nichicon/UBT2A220MPD1TD/493-4516-3-ND/2649104; Tolerance: 20%; Voltage: 100V; Price: 0.2476; Device Package: Radial, Can, 10mm
footprint CAP AL TH D10 L5 H14.5
pins: 1, 2

## UBT2A221MHD1TN
designator C?, comment 220uF  (value not drawn)
CAP ALUM 220UF 20% 100V RADIAL; Part Number: UBT2A221MHD1TN; Manufacturer: Nichicon; TemperatureRange: -40C ~ 125C; Type: Polar; Ripple Current: 750mA @ 120Hz; Impedance: 110 mOhm; Value: 220uF; PartId: 26837; Supplier 1: Digi-Key; Supplier Part Number 1: 493-4517-3-ND; ComponentLink1Description: Datasheet; ComponentLink1URL: http://nichicon-us.com/english/products/pdfs/e-ubt.pdf; ComponentLink2Description: Digi-Key Listing; ComponentLink2URL: https://www.digikey.com/product-detail/en/nichicon/UBT2A221MHD1TN/493-4517-3-ND/2649105; Tolerance: 20%; Voltage: 100V; Price: 0.9882; Device Package: Radial, Can, 16mm
footprint CAP AL TH D16 L7.5 H27
pins: 1, 2

## UBT2A330MPD1TD
designator C?, comment 33uF  (value not drawn)
CAP ALUM 33UF 20% 100V RADIAL; Part Number: UBT2A330MPD1TD; Manufacturer: Nichicon; TemperatureRange: -40C ~ 125C; Type: Polar; Ripple Current: 240mA  @ 120Hz; Impedance: 800 mOhm; Value: 33uF; PartId: 24664; Supplier 1: Digi-Key; Supplier Part Number 1: 493-13115-3-ND; ComponentLink1Description: Datasheet; ComponentLink1URL: http://nichicon-us.com/english/products/pdfs/e-ubt.pdf; ComponentLink2Description: Digi-Key Listing; ComponentLink2URL: https://www.digikey.com/product-detail/en/nichicon/UBT2A330MPD1TD/493-13115-3-ND/4332746; Tolerance: 20%; Voltage: 100V; Price: 0.2724; Device Package: Radial, Can, 10mm
footprint CAP AL TH D10 L5 H14.5
pins: 1, 2

## UBT2A331MHD
designator C?, comment 330uF  (value not drawn)
CAP ALUM 330UF 20% 100V RADIAL; Part Number: UBT2A331MHD; Manufacturer: Nichicon; TemperatureRange: -40C ~ 125C; Type: Polar; Ripple Current: 895mA @ 120Hz; Impedance: 79 mOhm; Value: 330uF; PartId: 27244; Supplier 1: Digi-Key; Supplier Part Number 1: 493-13035-ND; ComponentLink1Description: Datasheet; ComponentLink1URL: http://nichicon-us.com/english/products/pdfs/e-ubt.pdf; ComponentLink2Description: Digi-Key Listing; ComponentLink2URL: https://www.digikey.com/product-detail/en/nichicon/UBT2A331MHD/493-13035-ND/2597441; Tolerance: 20%; Voltage: 100V; Price: 2.59; Device Package: Radial, Can, 16mm
footprint CAP AL TH D16 L7.5 H33.5
pins: 1, 2

## UBT2A470MPD1TD
designator C?, comment 47uF  (value not drawn)
CAP ALUM 47UF 20% 100V RADIAL; Part Number: UBT2A470MPD1TD; Manufacturer: Nichicon; TemperatureRange: -40C ~ 125C; Type: Polar; Ripple Current: 315mA @ 120Hz; Impedance: 550 mOhm; Value: 47uF; PartId: 25474; Supplier 1: Digi-Key; Supplier Part Number 1: 493-13116-3-ND; ComponentLink1Description: Datasheet; ComponentLink1URL: http://nichicon-us.com/english/products/pdfs/e-ubt.pdf; ComponentLink2Description: Digi-Key Listing; ComponentLink2URL: https://www.digikey.com/product-detail/en/nichicon/UBT2A470MPD1TD/493-13116-3-ND/4332747; Tolerance: 20%; Voltage: 100V; Price: 0.2992; Device Package: Radial, Can, 10mm
footprint CAP AL TH D10 L5 H22
pins: 1, 2

## UBT2C470MHD1TO
designator C?, comment 47uF  (value not drawn)
CAP ALUM 47UF 20% 160V RADIAL; Part Number: UBT2C470MHD1TO; Manufacturer: Nichicon; TemperatureRange: -40C ~ 125C; Type: Polar; Ripple Current: 187mA @ 120Hz; Value: 47uF; PartId: 23498; Supplier 1: Digi-Key; Supplier Part Number 1: 493-4518-1-ND; ComponentLink1Description: Datasheet; ComponentLink1URL: http://nichicon-us.com/english/products/pdfs/e-ubt.pdf; ComponentLink2Description: Digi-Key Listing; ComponentLink2URL: https://www.digikey.com/product-detail/en/nichicon/UBT2C470MHD1TO/493-4518-1-ND/2650358; Tolerance: 20%; Voltage: 160V; Price: 1.21; Device Package: Radial, Can, 12.5mm
footprint CAP AL TH D12.5 L5 H22
pins: 1, 2

## UBT2C680MHD1TO
designator C?, comment 68uF  (value not drawn)
CAP ALUM 68UF 20% 160V RADIAL; Part Number: UBT2C680MHD1TO; Manufacturer: Nichicon; TemperatureRange: -40C ~ 125C; Type: Polar; Ripple Current: 245mA @ 120Hz; Value: 68uF; PartId: 24164; Supplier 1: Digi-Key; Supplier Part Number 1: 493-13121-1-ND; ComponentLink1Description: Datasheet; ComponentLink1URL: http://nichicon-us.com/english/products/pdfs/e-ubt.pdf; ComponentLink2Description: Digi-Key Listing; ComponentLink2URL: https://www.digikey.com/product-detail/en/nichicon/UBT2C680MHD1TO/493-13121-1-ND/4333131; Tolerance: 20%; Voltage: 160V; Price: 1.62; Device Package: Radial, Can, 12.5mm
footprint CAP AL TH D12.5 L5 H27
pins: 1, 2

## UBT2D100MPD1TD
designator C?, comment 10uF  (value not drawn)
CAP ALUM 10UF 20% 200V RADIAL; Part Number: UBT2D100MPD1TD; Manufacturer: Nichicon; TemperatureRange: -40C ~ 125C; Type: Polar; Ripple Current: 78mA @ 120Hz; Value: 10uF; PartId: 25822; Supplier 1: Digi-Key; Supplier Part Number 1: 493-13122-3-ND; ComponentLink1Description: Datasheet; ComponentLink1URL: http://nichicon-us.com/english/products/pdfs/e-ubt.pdf; ComponentLink2Description: Digi-Key Listing; ComponentLink2URL: https://www.digikey.com/product-detail/en/nichicon/UBT2D100MPD1TD/493-13122-3-ND/4332753; Tolerance: 20%; Voltage: 200V; Price: 0.341; Device Package: Radial, Can, 10mm
footprint CAP AL TH D10 L5 H22
pins: 1, 2

## UBT2D101MHD1TN
designator C?, comment 100uF  (value not drawn)
CAP ALUM 100UF 20% 200V RADIAL; Part Number: UBT2D101MHD1TN; Manufacturer: Nichicon; TemperatureRange: -40C ~ 125C; Type: Polar; Ripple Current: 329mA @ 120Hz; Value: 100uF; PartId: 26839; Supplier 1: Digi-Key; Supplier Part Number 1: 493-4519-3-ND; ComponentLink1Description: Datasheet; ComponentLink1URL: http://nichicon-us.com/english/products/pdfs/e-ubt.pdf; ComponentLink2Description: Digi-Key Listing; ComponentLink2URL: https://www.digikey.com/product-detail/en/nichicon/UBT2D101MHD1TN/493-4519-3-ND/2649107; Tolerance: 20%; Voltage: 200V; Price: 0.991; Device Package: Radial, Can, 16mm
footprint CAP AL TH D16 L7.5 H27
pins: 1, 2

## UBT2D330MHD1TO
designator C?, comment 33uF  (value not drawn)
CAP ALUM 33UF 20% 200V RADIAL; Part Number: UBT2D330MHD1TO; Manufacturer: Nichicon; TemperatureRange: -40C ~ 125C; Type: Polar; Ripple Current: 157mA @ 120Hz; Value: 33uF; PartId: 23502; Supplier 1: Digi-Key; Supplier Part Number 1: 493-13124-1-ND; ComponentLink1Description: Datasheet; ComponentLink1URL: http://nichicon-us.com/english/products/pdfs/e-ubt.pdf; ComponentLink2Description: Digi-Key Listing; ComponentLink2URL: https://www.digikey.com/product-detail/en/nichicon/UBT2D330MHD1TO/493-13124-1-ND/4333134; Tolerance: 20%; Voltage: 200V; Price: 1.25; Device Package: Radial, Can, 12.5mm
footprint CAP AL TH D12.5 L5 H22
pins: 1, 2

## UBT2D470MHD1TO
designator C?, comment 47uF  (value not drawn)
CAP ALUM 47UF 20% 200V RADIAL; Part Number: UBT2D470MHD1TO; Manufacturer: Nichicon; TemperatureRange: -40C ~ 125C; Type: Polar; Ripple Current: 204mA @ 120Hz; Value: 47uF; PartId: 24127; Supplier 1: Digi-Key; Supplier Part Number 1: 493-13125-1-ND; ComponentLink1Description: Datasheet; ComponentLink1URL: http://nichicon-us.com/english/products/pdfs/e-ubt.pdf; ComponentLink2Description: Digi-Key Listing; ComponentLink2URL: https://www.digikey.com/product-detail/en/nichicon/UBT2D470MHD1TO/493-13125-1-ND/4333135; Tolerance: 20%; Voltage: 200V; Price: 1.43; Device Package: Radial, Can, 12.5mm
footprint CAP AL TH D12.5 L5 H27
pins: 1, 2

## UBT2E100MPD1TD
designator C?, comment 10uF  (value not drawn)
CAP ALUM 10UF 20% 250V RADIAL; Part Number: UBT2E100MPD1TD; Manufacturer: Nichicon; TemperatureRange: -40C ~ 125C; Type: Polar; Ripple Current: 78mA @ 120Hz; Value: 10uF; PartId: 25824; Supplier 1: Digi-Key; Supplier Part Number 1: 493-13127-3-ND; ComponentLink1Description: Datasheet; ComponentLink1URL: http://nichicon-us.com/english/products/pdfs/e-ubt.pdf; ComponentLink2Description: Digi-Key Listing; ComponentLink2URL: https://www.digikey.com/product-detail/en/nichicon/UBT2E100MPD1TD/493-13127-3-ND/4332758; Tolerance: 20%; Voltage: 250V; Price: 0.341; Device Package: Radial, Can, 10mm
footprint CAP AL TH D10 L5 H22
pins: 1, 2

## UBT2E220MHD8TO
designator C?, comment 22uF  (value not drawn)
CAP ALUM 22UF 20% 250V RADIAL; Part Number: UBT2E220MHD8TO; Manufacturer: Nichicon; TemperatureRange: -40C ~ 125C; Type: Polar; Ripple Current: 128mA @ 120Hz; Value: 22uF; PartId: 23505; Supplier 1: Digi-Key; Supplier Part Number 1: 493-13128-1-ND; ComponentLink1Description: Datasheet; ComponentLink1URL: http://nichicon-us.com/english/products/pdfs/e-ubt.pdf; ComponentLink2Description: Digi-Key Listing; ComponentLink2URL: https://www.digikey.com/product-detail/en/nichicon/UBT2E220MHD8TO/493-13128-1-ND/4333138; Tolerance: 20%; Voltage: 250V; Price: 1.3; Device Package: Radial, Can, 12.5mm
footprint CAP AL TH D12.5 L5 H22
pins: 1, 2

## UBT2E330MHD1TO
designator C?, comment 33uF  (value not drawn)
CAP ALUM 33UF 20% 250V RADIAL; Part Number: UBT2E330MHD1TO; Manufacturer: Nichicon; TemperatureRange: -40C ~ 125C; Type: Polar; Ripple Current: 171mA @ 120Hz; Value: 33uF; PartId: 24143; Supplier 1: Digi-Key; Supplier Part Number 1: 493-13129-1-ND; ComponentLink1Description: Datasheet; ComponentLink1URL: http://nichicon-us.com/english/products/pdfs/e-ubt.pdf; ComponentLink2Description: Digi-Key Listing; ComponentLink2URL: https://www.digikey.com/product-detail/en/nichicon/UBT2E330MHD1TO/493-13129-1-ND/4333139; Tolerance: 20%; Voltage: 250V; Price: 1.48; Device Package: Radial, Can, 12.5mm
footprint CAP AL TH D12.5 L5 H27
pins: 1, 2

## UBT2E470MHD1TN
designator C?, comment 47uF  (value not drawn)
CAP ALUM 47UF 20% 250V RADIAL; Part Number: UBT2E470MHD1TN; Manufacturer: Nichicon; TemperatureRange: -40C ~ 125C; Type: Polar; Ripple Current: 225mA @ 120Hz; Value: 47uF; PartId: 26845; Supplier 1: Digi-Key; Supplier Part Number 1: 493-13130-3-ND; ComponentLink1Description: Datasheet; ComponentLink1URL: http://nichicon-us.com/english/products/pdfs/e-ubt.pdf; ComponentLink2Description: Digi-Key Listing; ComponentLink2URL: https://www.digikey.com/product-detail/en/nichicon/UBT2E470MHD1TN/493-13130-3-ND/4332761; Tolerance: 20%; Voltage: 250V; Price: 1.0364; Device Package: Radial, Can, 16mm
footprint CAP AL TH D16 L7.5 H27
pins: 1, 2